# Altium schematic symbol library MB0032A.01.A.1.SchLib: 1 symbol
Pins are listed as number, name and electrical type; pins without a type are passive.

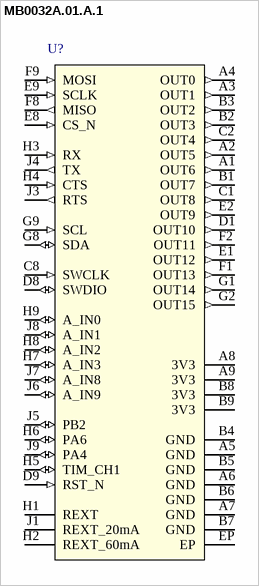
[diagram p0: symbol MB0032A.01.A.1]

## MB0032A.01.A.1
designator U?
pins: A1 OUT6 (out), A2 OUT5 (out), A3 OUT1 (out), A4 OUT0 (out), A5 GND (power), A6 GND (power), A7 GND (power), A8 3V3 (power), A9 3V3 (power), B1 OUT7 (out), B2 OUT3 (out), B3 OUT2 (out), B4 GND (power), B5 GND (power), B6 GND (power), B7 GND (power), B8 3V3 (power), B9 3V3 (power), C1 OUT8 (out), C2 OUT4 (out), C8 SWCLK (in), D1 OUT10 (out), D8 SWDIO (io), D9 RST_N (in), E1 OUT12 (out), E2 OUT9 (out), E8 CS_N (in), E9 SCLK (in), EP (power), F1 OUT13 (out), F2 OUT11 (out), F8 MISO (out), F9 MOSI (in), G1 OUT14 (out), G2 OUT15 (out), G8 SDA (io), G9 SCL (in), H1 REXT, H2 REXT_60mA, H3 RX (in), H4 CTS (in), H5 TIM_CH1 (io), H6 PA6 (io), H7 A_IN3 (io), H8 A_IN2 (io), H9 A_IN0 (io), J1 REXT_20mA, J3 RTS (out), J4 TX (out), J5 PB2 (io), J6 A_IN9 (io), J7 A_IN8 (io), J8 A_IN1 (io), J9 PA4 (io)